# EAGLE library part LM2596S-ADJ (library alim)
IC, SIMPLE SWITCHER Power Converter 150 kHz 3A Step-Down Voltage Regulator, TO-263-5
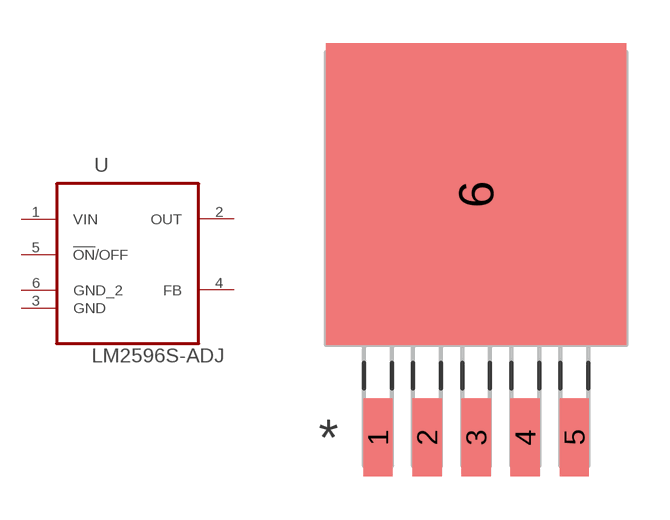
[diagram p1: symbol with the pads of TO170P1435X457-6N; footprint TO170P1435X457-6N]

Designator prefix U

## LM2596S-ADJ (MPN: LM2596S-ADJ; OC_FARNELL: 9494367; OC_NEWARK: Unknown; PACKAGE: TO-263-5; SUPPLIER: TEXAS INSTRUMENTS)  [TO170P1435X457-6N]
1  VIN  pwr
2  OUT  out
3  GND  pas
4  FB  in
5  !ON!/OFF  in
6  GND_2  pas

## Footprint TO170P1435X457-6N (pad centres in mm)
smd 1.016 x 2.692: 1 -3.404,-8.28; 2 -1.702,-8.28; 3 0,-8.28; 4 1.702,-8.28; 5 3.404,-8.28
smd 10.414 x 10.465: 6 0,0.152